# EAGLE library part ATMEGA48A/PA/88A/PA/168A/PA/328/P (library MCUs)
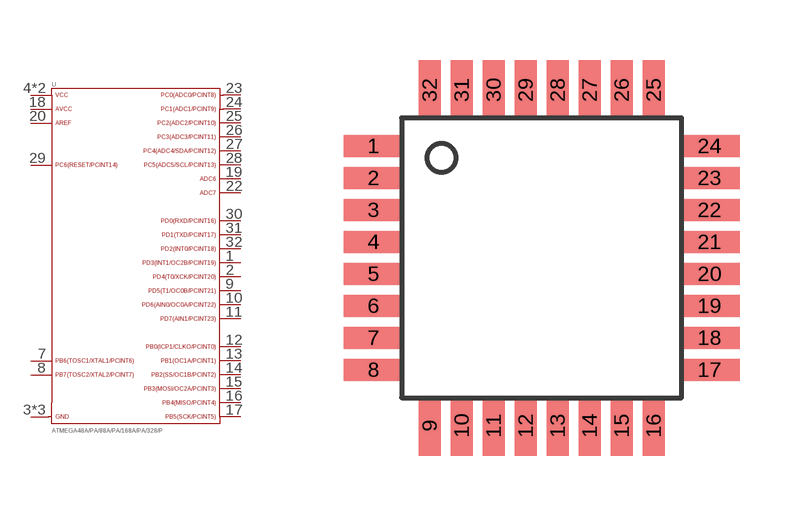
[diagram p9: symbol with the pads of QFP-32; footprint QFP-32]

Designator prefix U

## ATMEGA48A/PA/88A/PA/168A/PA/328/P_32QFP  [QFP-32]
1  PD3  pas
2  PD4  pas
3  GND  pas
4  VCC  pas
5  GND  pas
6  VCC  pas
7  PB6  pas
8  PB7  pas
9  PD5  pas
10  PD6  pas
11  PD7  pas
12  PB0  pas
13  PB1  pas
14  PB2  pas
15  PB3  pas
16  PB4  pas
17  PB5  pas
18  AVCC  pas
19  ADC6  pas
20  AREF  pas
21  GND  pas
22  ADC7  pas
23  PC0  pas
24  PC1  pas
25  PC2  pas
26  PC3  pas
27  PC4  pas
28  PC5  pas
29  PC6  pas
30  PD0  pas
31  PD1  pas
32  PD2  pas

## Footprint QFP-32 (pad centres in mm)
smd 1.5 x 0.55: 1 -4.2,2.8; 2 -4.2,2; 3 -4.2,1.2; 4 -4.2,0.4; 5 -4.2,-0.4; 6 -4.2,-1.2; 7 -4.2,-2; 8 -4.2,-2.8; 17 4.2,-2.8; 18 4.2,-2; 19 4.2,-1.2; 20 4.2,-0.4; 21 4.2,0.4; 22 4.2,1.2; 23 4.2,2; 24 4.2,2.8
smd 0.55 x 1.5: 9 -2.8,-4.2; 10 -2,-4.2; 11 -1.2,-4.2; 12 -0.4,-4.2; 13 0.4,-4.2; 14 1.2,-4.2; 15 2,-4.2; 16 2.8,-4.2; 25 2.8,4.2; 26 2,4.2; 27 1.2,4.2; 28 0.4,4.2; 29 -0.4,4.2; 30 -1.2,4.2; 31 -2,4.2; 32 -2.8,4.2